# Altium footprint library DieuKhienTuXa.PcbLib: 32 footprints (part 2 of 2)
Each footprint in its own frame and in the unit in brackets; x right, y up, seen from the top. Pads: shape width x height; smd on the part's side, far side on the other; paste and mask are expansions set on the pad; w line width, h text height; cw(c..) or ccw(c..) is an arc to the next point about the centre after c.
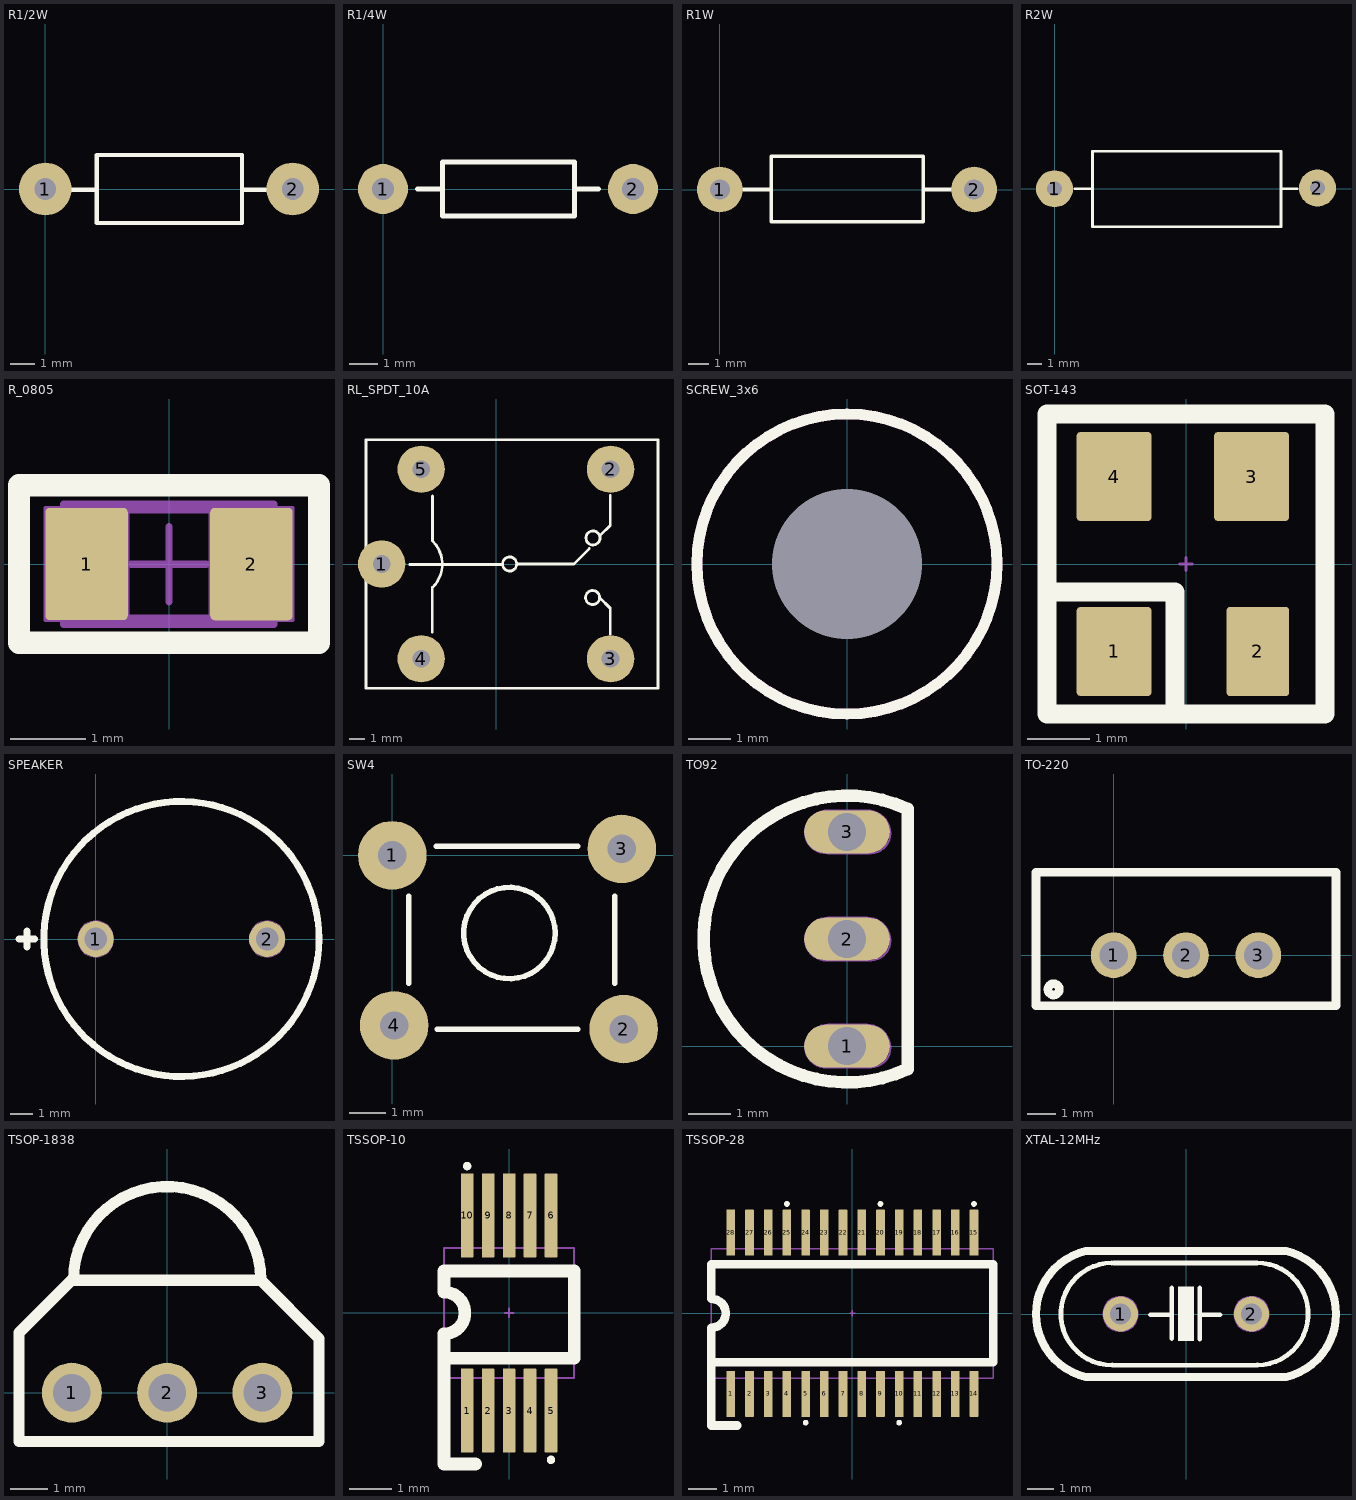
[diagram p1: the footprints below, top view; thin cyan lines are the x and y axes]

## R1/2W [mil] "R 1/2W, 2 pin, 300mil"
height 100
pads (2):
  round 85 hole 35: 1(0,0) 2(400,0)
Top Overlay:
  lines w7: 42,-1 83,-1 ; 318,-1 356,-1 ; 83,-55 318,-55 318,55 83,55 83,-55
3D body "SW3dPS-AXIAL_RESISTOR(0.25W).STEP": height 91.42, standoff -70, extent -11.6,-45.49 413.6,49

## R1/4W [mil] "R 1/4W, 2 Pin, 350mil"
height 100
pads (2):
  round 70 hole 31: 1(0,0) 2(350,0)
Top Overlay:
  lines w7: 48,0 83,0 ; 268,0 302,0 ; 83,-38 268,-38 268,38 83,38 83,-38
3D body "SW3dPS-AXIAL_RESISTOR(0.25W).STEP": height 111.42, standoff -50, extent -39.6,-47 385.6,47.49

## R1W [mil] "R 1W, 2 pin, 500mil"
height 100
pads (2):
  round 90 hole 39.37: 1(0,0) 2(500,0)
Top Overlay:
  lines w7: 46,0 101,0 ; 400,0 460,0 ; 101,0 101,65 400,65 400,-63 101,-63 101,0
3D body "User Library-Res50 1W SilCoat.step": height 177.95, standoff -78.74, extent -16.73,-86.61 512.8,90.55

## R2W [mm] "R2W, 2 pin, 700mil"
height 5.08
pads (2):
  round 2.5 hole 1: 1(0,0) 2(17.755,0.051)
Top Overlay:
  lines w0.178: 1.372,0 2.565,0 ; 15.316,0 16.383,0 ; 2.565,0 2.565,2.54 15.291,2.54 15.291,-2.565 2.565,-2.565 2.565,0
3D body "SW3dPS-AXIAL_RESISTOR(3W).STEP": height 8.3, standoff -2, extent -2.362,-3.327 19.838,3.273

## R_0805 [mm] "Chip Resistor; Body 2.0 x 1.3 mm (LxW typ)"
height 0.6
pads (2):
  rrect10% 1.1x1.5 smd: 1(-1.1,0) 2(1.1,0)
Top Overlay:
  lines w0.3: -2,-1.05 -2,1.05 2,1.05 2,-1.05 -2,-1.05
Mechanical 1:
  lines w0.05: -2,-1 2,-1 2,1 -2,1 -2,-1 ; -1.65,-0.75 -1.65,0.75 -0.55,0.75 -0.55,-0.75 -1.65,-0.75 ; 0.55,-0.75 1.65,-0.75 1.65,0.75 0.55,0.75 0.55,-0.75
  text "1" at -1.225,-0.375 h0.76
  text "2" at 0.825,-0.375 h0.76
Mechanical 13:
  lines w0.1: -1.1,-0.725 -1.1,0.725 1.1,0.725 1.1,-0.725 -1.1,-0.725
Mechanical 15:
  lines w0.1: -0.5,0 0.5,0 ; 0,-0.5 0,0.5 ; -1.4,-0.8 -1.4,0.8 1.4,0.8 1.4,-0.8 -1.4,-0.8
3D body "User Library-RESC2012X05N.step": height 0.45, standoff 0, extent -1,-0.625 1,0.625

## RL_SPDT_10A [mil] "Relay SPDT, 5 pin, 10A,W 650mil, L 800mil, H 800mil"
height 800
pads (5):
  round 120 hole 45: 1(-290,0) 2(290,240) 3(290,-240) 4(-190,-240) 5(-190,240)
Top Overlay:
  circle w7: c34.2,0 r17.8
  circle w7: c245.2,66 r17.8
  circle w7: c244.2,-85 r17.8
  lines w7: -219,-1 14,-1 ; -162,-173 -162,-60 ; -161,-59 ccw(c-218.5,-0.5) -160,57 ; -161,58 -161,172 ; 54,0 197,0 236,39 ; 262,-85 289,-112 289,-178 ; 263,72 289,98 289,174 ; -330,-315 410,-315 410,315 -330,315 -330,-315
3D body "User Library-SONGLE Relay SRU-12VDC-SL-C.step": height 602.36, standoff -196.85, extent -333.66,-309.06 418.31,301.18

## SCREW_3x6 [mm]
pads (1):
  round 0 hole 3.5 unplated: 0(0,0)
Top Overlay:
  circle w0.254: c0,0 r3.5
Keep-Out Layer:
  circle w0.254: c0,0 r3.5

## SOT-143 [mm] "SOT-143"
height 1.1
pads (4):
  rrect10% 1.2x1.425 smd mask+0.05: 1(-1.15,-1.4) 3(1.05,1.4) 4(-1.15,1.4)
  rrect10% 1x1.425 smd mask+0.05: 2(1.15,-1.4)
Top Overlay:
  lines w0.3: -2.175,-0.45 -0.175,-0.45 -0.175,-2.4 ; -2.225,-2.4 2.225,-2.4 2.225,2.4 -2.225,2.4 -2.225,-2.4
Mechanical 15:
  lines w0.05: -0.1,0 0.1,0 ; 0,-0.1 0,0.1
3D body "User Library-SOT143-1.step": height 1.22, standoff 0, extent -1.6,-1.231 1.3,1.132

## SPEAKER [mm] "TMB12A05, speak 2pin"
height 9.7
pads (2):
  round 1.6 hole 1 mask+0.1: 1(0,0) 2(7.6,0)
Top Overlay:
  circle w0.3: c3.8,0 r6.1
  lines w0.3: -3.4,0 -2.7,0 ; -3.05,-0.35 -3.05,0.35
Mechanical 1:
  circle w0.05: c7.6,0 r0.8
  circle w0.05: c0,0 r0.8
  circle w0.05: c3.8,0 r6.1
  lines w0.05: -3.4,0 -2.7,0 ; -3.05,-0.35 -3.05,0.35
  text "2" at 7.35,-0.35 h0.76
  text "1" at -0.1,-0.375 h0.76
3D body "User Library-WST-1203UX.step": height 9.65, standoff -4.5, extent -5.654,-6 9.8,6

## SW4 [mil] "SW button 4pin, 250 x250 mil"
height 100
pads (4):
  round 75 hole 31: 1(0,0) 2(253,-190) 3(251,7) 4(2,-186)
Top Overlay:
  circle w6: c128,-85 r50
  lines w6: 18,-140 18,-45 ; 48,10 203,10 ; 49,-190 203,-190 ; 243,-140 243,-45
  lines w7: 242,-205 243,-204
3D body "SW3dPS-.STEP": height 275.59, standoff -137.8, extent -32.51,-210 278.51,34.09

## TO92 [mil] "TO92"
height 188.98
pads (3):
  oval 80x40 hole 35.43 mask+3.94: 1(0,0) 2(0,100) 3(0,200)
Top Overlay:
  lines w11.81: 56.55,-21.33 cw(c0,100) 56.55,221.33 56.55,-21.33
Mechanical 1:
  lines w1.97: 22.12,-20 -18.2,-20 cw(c-19.38,-0.01) -39.37,-1.18 cw(c-17.95,-1.42) -17.72,20 18.7,20 cw(c18.94,-1.42) 40.35,-1.18 ; 22.12,80 -18.2,80 cw(c-19.38,99.99) -39.37,98.82 cw(c-17.95,98.58) -17.72,120 18.7,120 cw(c18.94,98.58) 40.35,98.82 ; 22.12,180 -18.2,180 cw(c-19.38,199.99) -39.37,198.82 cw(c-17.95,198.58) -17.72,220 18.7,220 cw(c18.94,198.58) 40.35,198.82 ; 22.61,-19.91 ccw(c22.12,-1.6) 40.43,-1.1 ; 22.61,80.09 ccw(c22.12,98.4) 40.43,98.9 ; 22.61,180.09 ccw(c22.12,198.4) 40.43,198.9 ; 56.55,-21.33 cw(c0,100) 56.55,221.33 56.55,-21.33
  text "3" at 11.81,191.93 h30
  text "2" at 11.81,90.55 h30
  text "1" at 11.81,-4.92 h30
3D body "User Library-TO-92C.step": height 314.96, standoff -118.98, extent -95,-9.74 59.72,209.74

## TO-220 [mm] "TO-220"
height 19.5
pads (3):
  round 1.6 hole 1 unplated mask+0.1: 1(0,0) 2(2.54,0) 3(5.08,0)
Top Overlay:
  circle w0.3: c-2.11,-1.2 r0.2
  lines w0.3: -2.73,-1.78 7.81,-1.78 7.81,2.92 -2.73,2.92 -2.73,-1.78
3D body "User Library-TO-220-4.STEP": height 21.06, standoff -7.74, extent -2.55,-1.725 7.65,2.775

## TSOP-1838 [mm] "IR receiver module for remote control systems"
height 8.25
pads (3):
  round 1.6 hole 1 unplated mask+0.1: 1(-2.54,0) 2(0,0) 3(2.54,0)
Top Overlay:
  lines w0.3: -2.5,3 cw(c0,3) 2.5,3 ; 2.5,3 4.05,1.45 4.05,-1.3 -3.95,-1.3 -3.95,1.6 -2.55,3 2.5,3
3D body "User Library-tsop4836.step": height 18.23, standoff -12.28, extent -2.975,-1.625 3.025,4.175

## TSSOP-10 [mm] "PDSO-G10"
height 1.1
pads (10):
  rrect10% 0.3x2 smd mask+0.05: 1(-1,-2.325) 2(-0.5,-2.325) 3(0,-2.325) 4(0.5,-2.325) 5(1,-2.325) 6(1,2.325) 7(0.5,2.325) 8(0,2.325) 9(-0.5,2.325) 10(-1,2.325)
Top Overlay:
  circle w0.1: c1,-3.5 r0.05
  circle w0.1: c-1,3.5 r0.05
  lines w0.3: -0.8,-3.6 -1.55,-3.6 -1.55,-1.075 ; -1.55,-1.075 -1.55,-0.5 ccw(c-1.55,0) -1.55,0.5 -1.55,1 1.55,1 1.55,-1.075 -1.55,-1.075
Mechanical 1:
  lines w0.05: -1.55,-0.5 ccw(c-1.55,0) -1.55,0.5 ; -1.55,-1.55 1.55,-1.55 1.55,1.55 -1.55,1.55 -1.55,-1.55
  text "1" at -1.125,-1.2 h0.76
  text "5" at 0.725,-1.225 h0.76
  text "6" at 0.6,0.425 h0.76
  text "10" at -1.125,0.425 h0.76
Mechanical 15:
  lines w0.05: -0.1,0 0.1,0 ; 0,-0.1 0,0.1
3D body "User Library-TSSOP-10.step": height 1.1, standoff 0, extent -1.5,-2.5 1.5,2.5

## TSSOP-28 [mm] "Package TSSOP28 (TSSOP-28); Code RU-28; Body size 9.7x4.5x1.2mm; Pitch 0.65mm; JEDEC MO-153AE"
pads (28):
  rrect10% 0.3x1.6 smd mask+0.07: 1(-4.225,-2.8) 2(-3.575,-2.8) 3(-2.925,-2.8) 4(-2.275,-2.8) 5(-1.625,-2.8) 6(-0.975,-2.8) 7(-0.325,-2.8) 8(0.325,-2.8) 9(0.975,-2.8) 10(1.625,-2.8) 11(2.275,-2.8) 12(2.925,-2.8) 13(3.575,-2.8) 14(4.225,-2.8) 15(4.225,2.8) 16(3.575,2.8) 17(2.925,2.8) 18(2.275,2.8) 19(1.625,2.8) 20(0.975,2.8) 21(0.325,2.8) 22(-0.325,2.8) 23(-0.975,2.8) 24(-1.625,2.8) 25(-2.275,2.8) 26(-2.925,2.8) 27(-3.575,2.8) 28(-4.225,2.8)
Top Overlay:
  circle w0.1: c-1.625,-3.8 r0.05
  circle w0.1: c1.625,-3.8 r0.05
  circle w0.1: c4.225,3.8 r0.05
  circle w0.1: c0.975,3.8 r0.05
  circle w0.1: c-2.275,3.8 r0.05
  lines w0.3: -4,-3.9 -4.9,-3.9 -4.9,-1.7 ; -4.9,-1.7 -4.9,-0.5 ccw(c-4.9,0) -4.9,0.5 -4.9,1.7 4.9,1.7 4.9,-1.7 -4.9,-1.7
Mechanical 1:
  lines w0.05: -4.9,-0.5 ccw(c-4.9,0) -4.9,0.5 ; -0.1,0 0.1,0 ; 0,-0.1 0,0.1 ; -4.9,-2.25 4.9,-2.25 4.9,2.25 -4.9,2.25 -4.9,-2.25
  text "28" at -4.6,1 h0.76
  text "15" at 3.5,1 h0.76
  text "14" at 3.5,-1.8 h0.76
  text "1" at -4.4,-1.8 h0.76
3D body "SW3dPS-TSSOP-28_P065.STEP": height 0.97, standoff -0.02, extent -4.85,-3.2 4.85,3.2

## XTAL-12MHz [mm] "Quartz Crystal, Thru-Hole; 2 Leads; Body 11.35 x 4.65 x 13.46 mm (LxWxH max)"
height 3.5
pads (2):
  round 1.3 hole 0.8 mask+0.1: 1(-2.44,0) 2(2.44,0)
Top Overlay:
  region: 0.292,1.016 0.292,-0.991 -0.292,-0.991 -0.292,1.016
  lines w0.178: -2.769,1.905 ccw(c-2.756,0) -2.75,-1.905 ; -2.717,-1.905 2.617,-1.905 ; -2.692,1.905 2.642,1.905 ; -1.321,-0.025 -0.533,-0.025 ; -0.533,-0.914 -0.533,0.965 ; 0.508,-0.94 0.508,0.965 ; 0.508,-0.025 1.27,-0.025 ; 2.642,1.905 cw(c2.647,0) 2.66,-1.905
  lines w0.3: -3.733,-2.35 3.733,-2.35 ; -3.733,-2.348 cw(c-3.175,0) -3.733,2.348 ; -3.733,2.35 3.733,2.35 ; 3.733,-2.348 ccw(c3.175,0) 3.733,2.348
Mechanical 1:
  circle w0.05: c2.44,0 r0.65
  circle w0.05: c-2.44,0 r0.65
  lines w0.05: -3.733,-2.35 3.733,-2.35 ; -3.733,-2.348 cw(c-3.175,0) -3.733,2.348 ; -3.733,2.35 3.733,2.35 ; 3.733,-2.348 ccw(c3.175,0) 3.733,2.348
3D body "HC49S.STEP": height 3.6, standoff -3, extent -5.49,-2.245 5.49,2.246